# Altium schematic symbol library PTVS3V3S1UTR,115.SchLib: 2 symbols
Pins are listed as number, name and electrical type; pins without a type are passive.

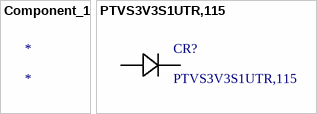
[diagram p0: symbols Component_1 to PTVS3V3S1UTR,115]

## Component_1
designator *

## PTVS3V3S1UTR,115
designator CR?
No Description Available; Mfr_Name: Nexperia; Type: DEV; Copyright: Copyright (C) 2023 Ultra Librarian. All rights reserved.; Manufacturer_Part_Number: PTVS3V3S1UTR,115; Digi-Key_Part_Number_1: 1727-1416-2-ND; Digi-Key_Part_Number_2: 1727-1416-1-ND; Digi-Key_Part_Number_3: 1727-1416-6-ND; RefDes: RefDes
footprint CR_PTVS3V_NEX
pins: 1, 2